# EAGLE library part DP83825I (library Public)
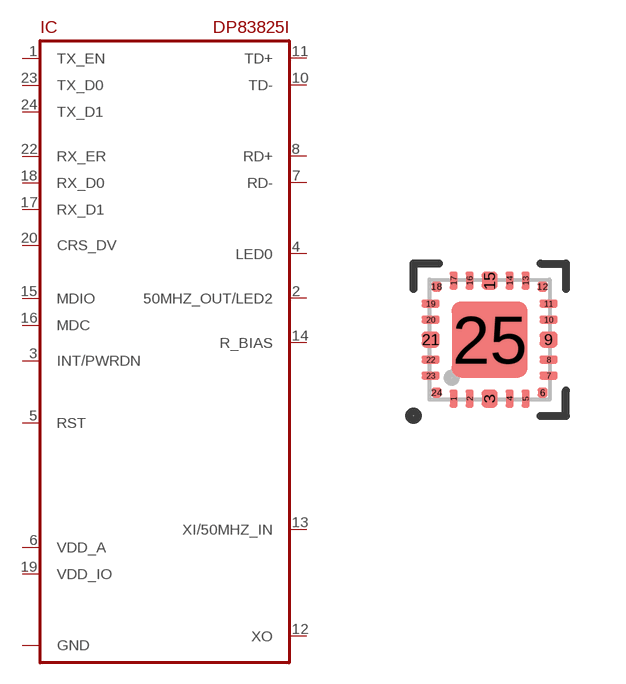
[diagram p148: symbol with the pads of WQFN24-0.4; footprint WQFN24-0.4]

Designator prefix IC

## DP83825I  [WQFN24-0.4]
1  TX_EN
2  50MHZ_OUT/LED2
3  INT/PWRDN
4  LED0
5  RST
6  VDD_A
7  RD-
8  RD+
9  GND
10  TD-
11  TD+
12  XO
13  XI/50MHZ_IN
14  R_BIAS
15  MDIO
16  MDC
17  RX_D1
18  RX_D0
19  VDD_IO
20  CRS_DV
21  GND
22  RX_ER
23  TX_D0
24  TX_D1

## Footprint WQFN24-0.4 (pad centres in mm)
smd 0.2 x 0.45: 1 -0.9,-1.475; 2 -0.5,-1.475; 4 0.5,-1.475; 5 0.9,-1.475; 13 0.9,1.475; 14 0.5,1.475; 16 -0.5,1.475; 17 -0.9,1.475
smd 0.4 x 0.45: 3 0,-1.475; 15 0,1.475
smd 0.25 x 0.25: 6 1.325,-1.325; 12 1.325,1.325; 18 -1.325,1.325; 24 -1.325,-1.325
smd 0.45 x 0.2: 7 1.475,-0.9; 8 1.475,-0.5; 10 1.475,0.5; 11 1.475,0.9; 19 -1.475,0.9; 20 -1.475,0.5; 22 -1.475,-0.5; 23 -1.475,-0.9
smd 0.45 x 0.4: 9 1.475,0; 21 -1.475,0
smd 1.9 x 1.9: 25 0,0